# EAGLE library part PT8211 (library _mtvl_ic)
16-Bit Digital to Analog Converter
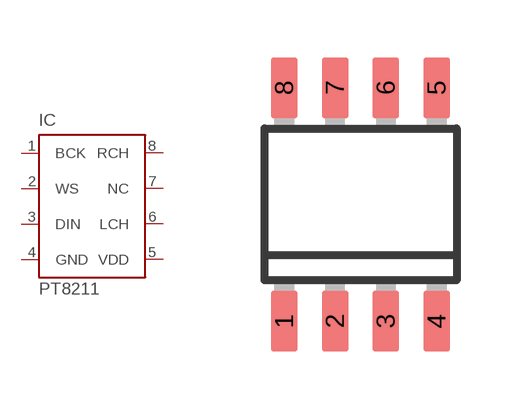
[diagram p46: symbol with the pads of SO8; footprint SO8]

Designator prefix IC

## PT8211  [SO8]
1  BCK
2  WS
3  DIN
4  GND
5  VDD
6  LCH
7  NC
8  RCH

## Footprint SO8 (pad centres in mm)
SMALL OUTLINE INTEGRATED CIRCUIT
smd 0.66 x 1.524: 1 -1.905,-2.921; 2 -0.635,-2.921; 3 0.635,-2.921; 4 1.905,-2.921; 5 1.905,2.921; 6 0.635,2.921; 7 -0.635,2.921; 8 -1.905,2.921